# EAGLE library part STM8S105K6 (library simpa)
STMICROELECTRONICS STM8S105K6T6C 8 Bit Microcontroller, Access Line, STM8S105xx 16 MHz, 32 KB, 2 KB, 32, LQFP
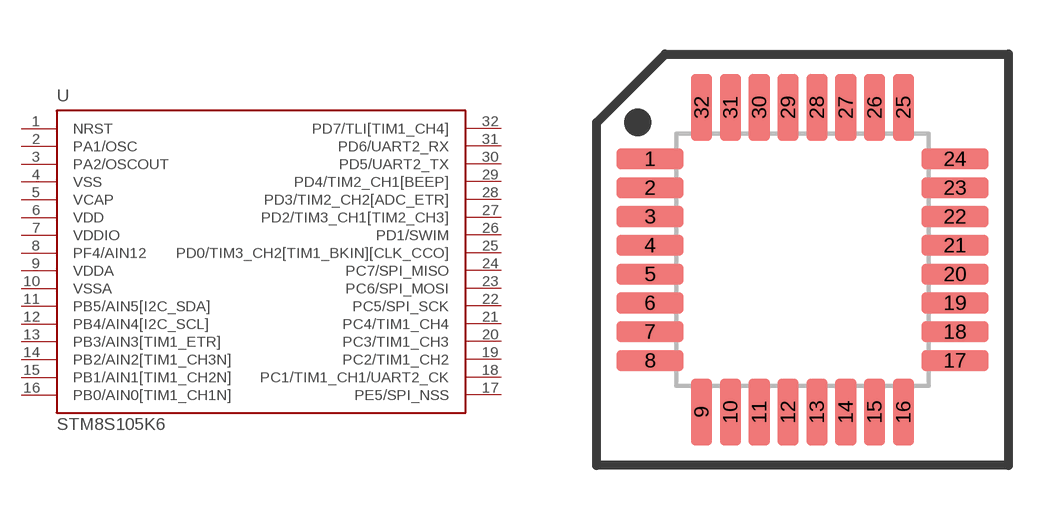
[diagram p1: symbol with the pads of LQFP32-7X7; footprint LQFP32-7X7]

Designator prefix U

## STM8S105K6T6C  [LQFP32-7X7]
1  NRST
2  PA1/OSC
3  PA2/OSCOUT
4  VSS  pas
5  VCAP  pas
6  VDD  pas
7  VDDIO  pas
8  PF4/AIN12
9  VDDA  pas
10  VSSA  pas
11  PB5/AIN5[I2C_SDA]
12  PB4/AIN4[I2C_SCL]
13  PB3/AIN3[TIM1_ETR]
14  PB2/AIN2[TIM1_CH3N]
15  PB1/AIN1[TIM1_CH2N]
16  PB0/AIN0[TIM1_CH1N]
17  PE5/SPI_NSS
18  PC1/TIM1_CH1/UART2_CK
19  PC2/TIM1_CH2
20  PC3/TIM1_CH3
21  PC4/TIM1_CH4
22  PC5/SPI_SCK
23  PC6/SPI_MOSI
24  PC7/SPI_MISO
25  PD0/TIM3_CH2[TIM1_BKIN][CLK_CCO]
26  PD1/SWIM
27  PD2/TIM3_CH1[TIM2_CH3]
28  PD3/TIM2_CH2[ADC_ETR]
29  PD4/TIM2_CH1[BEEP]
30  PD5/UART2_TX
31  PD6/UART2_RX
32  PD7/TLI[TIM1_CH4]

## Footprint LQFP32-7X7 (pad centres in mm)
LQFP-32 package 7x7 mm case, 0.8 mm lead pitch Sourced: Data sheet <http://www.st.com/stonline/products/literature/ds/14771/stm8s105c4.pdf>
smd 1.86 x 0.59: 1 -4.23,2.8; 2 -4.23,2; 3 -4.23,1.2; 4 -4.23,0.4; 5 -4.23,-0.4; 6 -4.23,-1.2; 7 -4.23,-2; 8 -4.23,-2.8; 17 4.23,-2.8; 18 4.23,-2; 19 4.23,-1.2; 20 4.23,-0.4; 21 4.23,0.4; 22 4.23,1.2; 23 4.23,2; 24 4.23,2.8
smd 0.59 x 1.86: 9 -2.8,-4.23; 10 -2,-4.23; 11 -1.2,-4.23; 12 -0.4,-4.23; 13 0.4,-4.23; 14 1.2,-4.23; 15 2,-4.23; 16 2.8,-4.23; 25 2.8,4.23; 26 2,4.23; 27 1.2,4.23; 28 0.4,4.23; 29 -0.4,4.23; 30 -1.2,4.23; 31 -2,4.23; 32 -2.8,4.23